# Altium schematic symbol library AnalogDevices.SchLib: 2 symbols
Pins are listed as number, name and electrical type; pins without a type are passive.

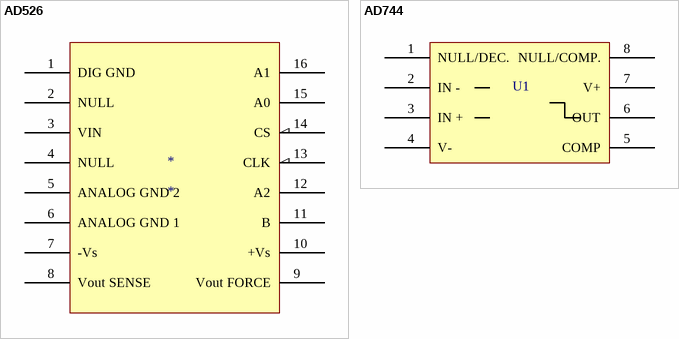
[diagram p0: symbols AD526 to AD744]

## AD526
designator *
footprint DIP-16
pins: 1 DIG GND, 2 NULL, 3 VIN, 4 NULL, 5 ANALOG GND 2, 6 ANALOG GND 1, 7 -Vs, 8 Vout SENSE, 9 Vout FORCE, 10 +Vs, 11 B, 12 A2, 13 CLK, 14 CS, 15 A0, 16 A1

## AD744
designator U1  (value not drawn)
footprint DIP-8
pins: 1 NULL/DEC., 2 IN -, 3 IN +, 4 V-, 5 COMP, 6 OUT, 7 V+, 8 NULL/COMP.